# Altium footprint library 1.2x3.6_Pad.PcbLib: 1 footprints
Each footprint in its own frame and in the unit in brackets; x right, y up, seen from the top. Pads: shape width x height; smd on the part's side, far side on the other; paste and mask are expansions set on the pad; w line width, h text height; cw(c..) or ccw(c..) is an arc to the next point about the centre after c.
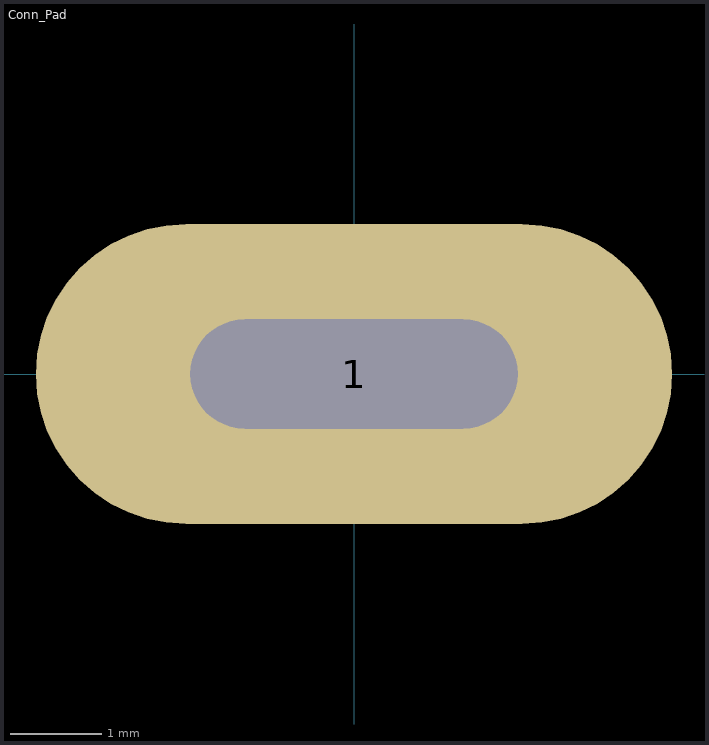
[diagram p0: the footprint, top view; thin cyan lines are the x and y axes]

## Conn_Pad [mm]
pads (1):
  oval 7x3.3 hole 1.2 slot 3.6 at 0 deg: 1(0,0)